# EAGLE library part MOTOR_BREAKOUT (library scono)
Breakout for three DRV8838 Motor Drivers
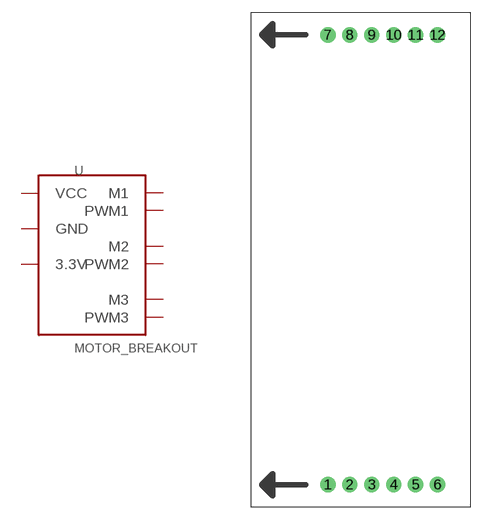
[diagram p17: symbol with the pads of MOTOR_BREAKOUT; footprint MOTOR_BREAKOUT]

Designator prefix -

## MOTOR_BREAKOUT  [MOTOR_BREAKOUT]
1  GND
2  VCC
3  3.3V
4  PWM3
5  M3
6  PWM2
7  GND
8  VCC
9  3.3V
10  M2
11  PWM1
12  M1

## Footprint MOTOR_BREAKOUT (pad centres in mm)
Breakout for Extra Motor Drivers
drill 1 pad 1.778: 1 8.89,2.54; 2 11.43,2.54; 3 13.97,2.54; 4 16.51,2.54; 5 19.05,2.54; 6 21.59,2.54; 7 8.89,54.61; 8 11.43,54.61; 9 13.97,54.61; 10 16.51,54.61; 11 19.05,54.61; 12 21.59,54.61